# Altium schematic symbol library SCH - POWER - SWITCHMODE - MAXIM MAX15062AATA.SCHLIB: 1 symbol
Pins are listed as number, name and electrical type; pins without a type are passive.

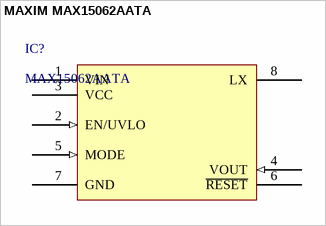
[diagram p0: symbol MAXIM MAX15062AATA]

## MAXIM MAX15062AATA
designator IC?, comment MAX15062AATA
60V, 300mA, Ultra-Small, High-Efficiency, Synchronous Step-Down DC-DC Converters; Manufacturer: Maxim; Manufacturer Part Number: MAX15062AATA+T; Number of Outputs: 1; Min Input Voltage: 4.5V; Switching Frequency: 500kHz; Output Type: Fixed; Output Configuration: Positive; Min Output Voltage: 3.3V; Synchronous Rectifier: Yes; Part Number: MAX15062AATA; RoHS: Yes; Category: Voltage Regulators - Switching; Stock 1: 9255; Pricing 1: 1=2,27000, 10=2,03500, 25=1,92000, 100=1,53600, 250=1,34400, 500=1,30560, 1000=1,24800 (USD); Mount: Surface Mount; Case/Package: WFDFN; Number of Pins: 8; Min Operating Temperature: -40°C; Max Operating Temperature: 125°C; Packaging: Tape and Reel; Package Quantity: 2500; Max Input Voltage: 60V; Output Current: 300mA; Min Supply Voltage: 4.5V; Max Supply Voltage: 60V; Radiation Hardening: No; REACH SVHC: Unknown; ComponentLink1URL: https://datasheet.ciiva.com/24021/max15062-257927-24021067.pdf?src-supplier=Mouser; ComponentLink1Description: https://datasheet.ciiva.com/24021/max15062-257927-24021067.pdf?src-supplier=Mouser; Supplier 1: Digi-Key; Supplier 2: Avnet; Supplier Part Number 1: MAX15062AATA+TCT-ND; Supplier Part Number 2: MAX15062AATA+
footprint MAXIM TDFN-8 T822CN+1 (TDFN, 8-Leads, Body 2,00x2,00mm, Pitch 0,50mm, IPC Medium Density)
pins: 1 VIN (power) "Switching Regulator Power Input. Connect a X7R 1µF ceramic capacitor from V IN to GND for bypassing.", 2 EN/UVLO (in) "Active-High, Enable/Undervoltage-Detection Input. Pull EN/UVLO to GND to disable the regulator output. Connect EN/UVLO to V IN for always-on operation. Connect a resistor-divider between V IN and EN/UVLO to GND to program the input voltage at which the device is enabled and turns on.", 3 VCC (power) "Internal LDO Power Output. Bypass V CC to GND with a minimum 1µF capacitor.", 4 VOUT (in) "Feedback Input. For fixed output voltage versions, connect FB/V OUT directly to the output. For the adjustable output voltage version, connect FB/V OUT to a resistor-divider between V OUT and GND to adjust the output voltage from 0.9V to 0.89 x V IN .", 5 MODE (in) "PFM/PWM Mode Selection Input. Connect MODE to GND to enable the fixed-frequency PWM operation. Leave unconnected for light-load PFM operation.", 6 ~{RESET} (oc) "Open-Drain Reset Output. Pull up RESET to an external power supply with an external resistor. RESET goes low when the output voltage drops below 92% of the set nominal regulated voltage. RESET goes high impedance 2ms after the output voltage rises above 95% of its regulation value. See the Electrical Characteristics table for threshold values.", 7 GND (power) "Ground. Connect GND to the power ground plane. Connect all the circuit ground connections together at a single point. See the PCB Layout Guidelines section.", 8 LX (power) "Inductor Connection. Connect LX to the switching side of the inductor. LX is high impedance when the device is in shutdown."